# Altium footprint library 2016-02-21_13-02-55.PcbLib: 10 footprints
Each footprint in its own frame and in the unit in brackets; x right, y up, seen from the top. Pads: shape width x height; smd on the part's side, far side on the other; paste and mask are expansions set on the pad; w line width, h text height; cw(c..) or ccw(c..) is an arc to the next point about the centre after c.
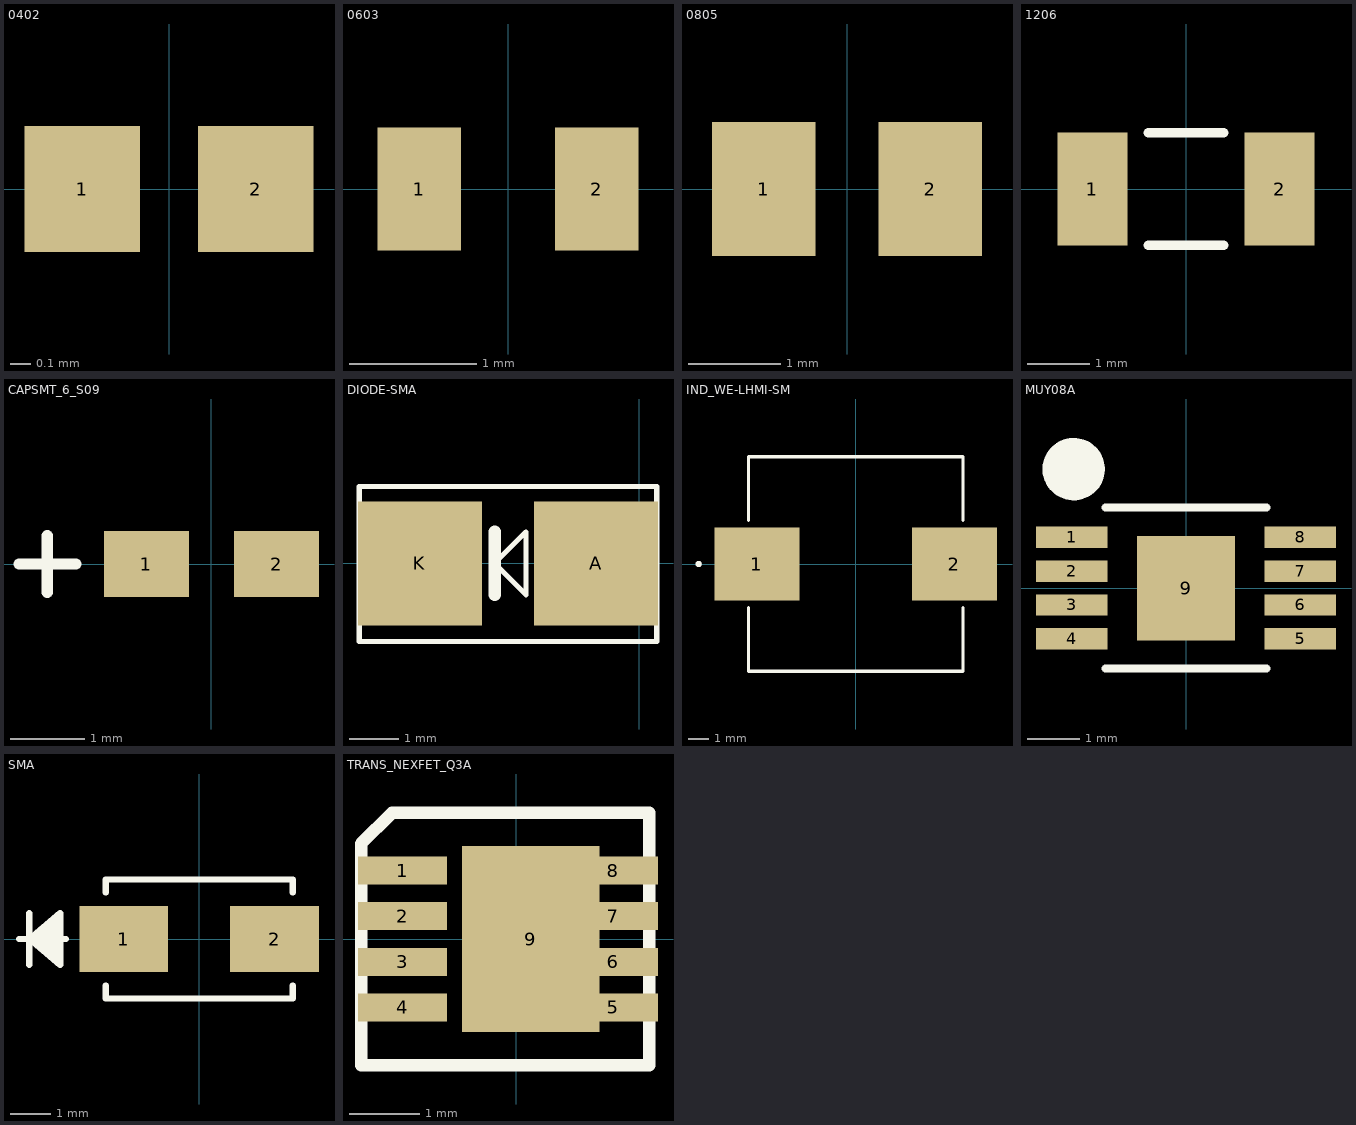
[diagram p0: the footprints below, top view; thin cyan lines are the x and y axes]

## 0402 [mil]
pads (2):
  rect 22x24 smd: 1(-16.5,0) 2(16.5,0)

## 0603 [mil]
pads (2):
  rect 26x38 smd: 1(-27.5,0) 2(27.5,0)

## 0805 [mil]
pads (2):
  rect 44x57 smd: 1(-35.5,0) 2(35.5,0)

## 1206 [mil]
pads (2):
  rect 44x71 smd: 1(-59,0) 2(59,0)
Top Overlay:
  lines w6: -23.9,-35.5 23.9,-35.5 ; -23.9,35.5 23.9,35.5
3D body: height 27.05, standoff -0.51, extent -63.97,-32.47 63.98,32.49

## CAPSMT_6_S09 [mil]
pads (2):
  rect 45x35 smd: 1(-34.5,0) 2(34.5,0)
Top Overlay:
  lines w6: -102,0 -72,0 ; -87,-15 -87,15

## DIODE-SMA [mm]
pads (2):
  rect 2.5x2.5 smd: A(-0.875,0) K(-4.425,0)
Top Overlay:
  lines w0.102: -5.65,-1.575 -5.65,1.55 0.35,1.55 0.35,-1.575 -5.65,-1.575 ; -2.921,0 -2.286,0.635 -2.286,0 -2.286,-0.635 -2.921,0
  lines w0.25: -2.921,-0.635 -2.921,0 -2.921,0.635
3D body: height 2.4, standoff 0, extent -5.2,-1.3 0,1.3

## IND_WE-LHMI-SM [mil]
pads (2):
  rect 161x138 smd: 1(-187,0) 2(187,0)
Top Overlay:
  circle w6: c-297.5,0 r3
  lines w6: -203,-82.1 -203,-203 203,-203 203,-82.1 ; -203,82.1 -203,203 203,203 203,82.1
3D body: height 145.67, standoff -3.94, extent -216.54,-196.85 216.53,196.85

## MUY08A [mil]
pads (9):
  rect 54x16.14 smd mask+4: 1(-86.5,38.39) 2(-86.5,12.8) 3(-86.5,-12.8) 4(-86.5,-38.39) 5(86.5,-38.39) 6(86.5,-12.8) 7(86.5,12.8) 8(86.5,38.39)
  rect 74x79 smd: 9(0,0)
Top Overlay:
  circle w23.62: c-85,90 r11.81
  lines w6: -61,-61 61,-61 ; -61,61 61,61
3D body: height 43.31, standoff 0, extent -96.45,-59.05 96.46,59.06

## SMA [mil]
pads (2):
  rect 86x64 smd: 1(-73,0) 2(73,0)
Top Overlay:
  lines w6: -174.5,0 -129.1,0 ; -164.5,-25 -164.5,25 ; -134.5,-20 -164.5,0 ; -134.5,-15 -164.5,0 ; -134.5,-10 -164.5,0 ; -134.5,-5 -164.5,0 ; -134.5,5 -164.5,0 ; -134.5,10 -164.5,0 ; -134.5,15 -164.5,0 ; -134.5,20 -164.5,0 ; -90.5,-45.1 -90.5,-57.5 90.5,-57.5 90.5,-45.1 ; -90.5,45.1 -90.5,57.5 90.5,57.5 90.5,45.1 ; -164.5,0 -134.5,-25 -134.5,25 -164.5,0
3D body: height 94.69, standoff 0, extent -102.36,-51.17 102.36,51.19

## TRANS_NEXFET_Q3A [mm]
pads (9):
  rect 1.27x0.4 smd paste-0.327 mask+0.076: 1(-1.625,0.975) 2(-1.625,0.325) 3(-1.625,-0.325) 4(-1.625,-0.975)
  rect 1.27x0.4 smd paste-0.237 mask+0.076: 5(1.385,-0.975) 6(1.385,-0.325) 7(1.385,0.325) 8(1.385,0.975)
  rect 1.96x2.65 smd paste-1.312 mask+0.076: 9(0.205,0)
Top Overlay:
  lines w0.178: -2.215,-1.8 -0.255,-1.8 1.895,-1.8 1.895,0.01 1.895,1.8 -0.315,1.8 -1.775,1.8 -2.215,1.36 -2.215,0.07 -2.215,-1.8
Top Paste:
  region: -1.85,1.145 -1.85,0.805 -1.4,0.805 -1.4,1.145
  region: -1.85,0.495 -1.85,0.155 -1.4,0.155 -1.4,0.495
  region: -1.84,-0.155 -1.84,-0.495 -1.39,-0.495 -1.39,-0.155
  region: -1.85,-0.805 -1.85,-1.145 -1.4,-1.145 -1.4,-0.805
  region: 1.025,-0.805 1.025,-1.145 1.475,-1.145 1.475,-0.805
  region: 1.025,-0.155 1.025,-0.495 1.475,-0.495 1.475,-0.155
  region: 1.025,0.495 1.025,0.155 1.475,0.155 1.475,0.495
  region: 1.025,1.145 1.025,0.805 1.475,0.805 1.475,1.145
  region: -0.655,0.125 0.795,0.125 0.795,1.145 -0.655,1.145
  region: -0.655,-1.145 0.795,-1.145 0.795,-0.125 -0.655,-0.125
3D body: height 1.03, standoff -0.02, extent -1.775,-1.775 1.775,1.775